# Altium footprint library Radio.PcbLib: 4 footprints
Each footprint in its own frame and in the unit in brackets; x right, y up, seen from the top. Pads: shape width x height; smd on the part's side, far side on the other; paste and mask are expansions set on the pad; w line width, h text height; cw(c..) or ccw(c..) is an arc to the next point about the centre after c.
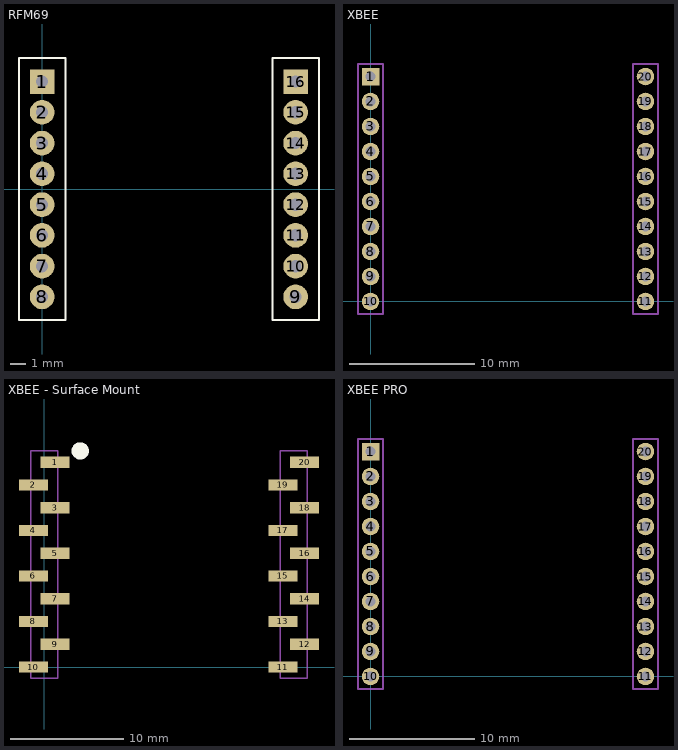
[diagram p0: the footprints below, top view; thin cyan lines are the x and y axes]

## RFM69 [mm]
height 0.198
pads (16):
  rect 1.6x1.6 hole 0.8: 1(0,6.985) 16(16.485,6.985)
  round 1.6 hole 0.8: 2(0,4.985) 3(0,2.985) 4(0,0.985) 5(0,-1.015) 6(0,-3.015) 7(0,-5.015) 8(0,-7.015) 9(16.485,-7.015) 10(16.485,-5.015) 11(16.485,-3.015) 12(16.485,-1.015) 13(16.485,0.985) 14(16.485,2.985) 15(16.485,4.985)
Top Overlay:
  lines w0.127: -1.5,-8.509 1.524,-8.509 1.524,8.509 -1.5,8.509 -1.5,-8.509 ; 14.985,-8.509 18.009,-8.509 18.009,8.509 14.985,8.509 14.985,-8.509
3D body: height 9.8, standoff 7.9, extent -1.676,-8.763 18.161,8.712

## XBEE [mm] "XBEE"
height 2.79
pads (20):
  rect 1.4x1.4 hole 0.8: 1(0,18)
  round 1.4 hole 0.8: 2(0,16) 3(0,14) 4(0,12) 5(0,10) 6(0,8) 7(0,6) 8(0,4) 9(0,2) 10(0,0) 11(22,0) 12(22,2) 13(22,4) 14(22,6) 15(22,8) 16(22,10) 17(22,12) 18(22,14) 19(22,16) 20(22,18)
Mechanical 1:
  lines w0.127: -1,-1 1,-1 1,19 -1,19 -1,-1 ; 21,-1 21,19 23,19 23,-1 21,-1
3D body: height 2, standoff 0, extent 21,-1 23,19
3D body: height 2, standoff 0, extent -1,-1 1,19
3D body: height 6.98, standoff 6, extent -1.19,-2 23.19,25.61

## XBEE - Surface Mount [mil] "XBEE, Mounted on NorComp 28631006RP2 Headers"
height 109.84
pads (20):
  rect 100x39 smd: 1(37.5,711) 2(-37.5,632) 3(37.5,553) 4(-37.5,474) 5(37.5,395) 6(-37.5,316) 7(37.5,237) 8(-37.5,158) 9(37.5,79) 10(-37.5,0) 11(828.62,0) 12(903.66,79) 13(828.62,158) 14(903.66,237) 15(828.62,316) 16(903.66,395) 17(828.62,474) 18(903.66,553) 19(828.62,632) 20(903.66,711)
Top Overlay:
  circle w30: c125,750 r15
Mechanical 1:
  lines w5: 819.13,-39.5 913.13,-39.5 913.13,750 819.13,750 819.13,-39.13 ; -47,-39.5 47,-39.5 47,750 -47,750 -47,-39.5
3D body: height 248.74, standoff 0, extent -47,-39.5 47,750
3D body: height 248.74, standoff 0, extent 819.13,-39.5 913.13,751.18
3D body: height 279.84, standoff 248.74, extent -46.85,-78.74 912.99,1008.27

## XBEE PRO [mm] "XBEE PRO"
height 2.79
pads (20):
  rect 1.4x1.4 hole 0.8: 1(0,18)
  round 1.4 hole 0.8: 2(0,16) 3(0,14) 4(0,12) 5(0,10) 6(0,8) 7(0,6) 8(0,4) 9(0,2) 10(0,0) 11(22,0) 12(22,2) 13(22,4) 14(22,6) 15(22,8) 16(22,10) 17(22,12) 18(22,14) 19(22,16) 20(22,18)
Mechanical 1:
  lines w0.127: -1,-1 1,-1 1,19 -1,19 -1,-1 ; 21,-1 21,19 23,19 23,-1 21,-1
3D body: height 2, standoff 0, extent 21,-1 23,19
3D body: height 2, standoff 0, extent -1,-1 1,19
3D body: height 7, standoff 6, extent -1.19,-7.366 23.19,25.61